# EAGLE library part PCIE-036-02-X-D-EMS2 (library pcie2usbc)
PCI EXPRESS EDGE MOUNT ASSEMBLY,36PINS.
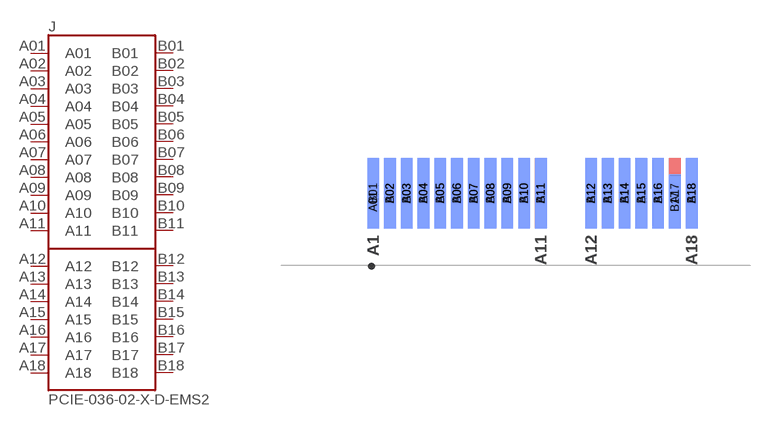
[diagram p0: symbol with the pads of SAMTEC_PCIE-036-02-X-D-EMS2; footprint SAMTEC_PCIE-036-02-X-D-EMS2]

Designator prefix J

## PCIE-036-02-X-D-EMS2 (MANUFACTURER: Samtec; MAXIMUM_PACKAGE_HEIGHT: 3.715mm; PARTREV: C; STANDARD: Manufacturer Recommendations)  [SAMTEC_PCIE-036-02-X-D-EMS2]
A01  A01  pas
A02  A02  pas
A03  A03  pas
A04  A04  pas
A05  A05  pas
A06  A06  pas
A07  A07  pas
A08  A08  pas
A09  A09  pas
A10  A10  pas
A11  A11  pas
A12  A12  pas
A13  A13  pas
A14  A14  pas
A15  A15  pas
A16  A16  pas
A17  A17  pas
A18  A18  pas
B01  B01  pas
B02  B02  pas
B03  B03  pas
B04  B04  pas
B05  B05  pas
B06  B06  pas
B07  B07  pas
B08  B08  pas
B09  B09  pas
B10  B10  pas
B11  B11  pas
B12  B12  pas
B13  B13  pas
B14  B14  pas
B15  B15  pas
B16  B16  pas
B17  B17  pas
B18  B18  pas

## Footprint SAMTEC_PCIE-036-02-X-D-EMS2 (pad centres in mm)
PCI EXPRESS EDGE MOUNT ASSEMBLY,36PINS.
smd 0.7 x 3.2: A01 -11.5,-4
smd 0.7 x 4.2: A02 -10.5,-3.5; A03 -9.5,-3.5; A04 -8.5,-3.5; A05 -7.5,-3.5; A06 -6.5,-3.5; A07 -5.5,-3.5; A08 -4.5,-3.5; A09 -3.5,-3.5; A10 -2.5,-3.5; A11 -1.5,-3.5; A12 1.5,-3.5; A13 2.5,-3.5; A14 3.5,-3.5; A15 4.5,-3.5; A16 5.5,-3.5; A17 6.5,-3.5; A18 7.5,-3.5
smd 0.7 x 4.2 bottom: B01 -11.5,-3.5; B02 -10.5,-3.5; B03 -9.5,-3.5; B04 -8.5,-3.5; B05 -7.5,-3.5; B06 -6.5,-3.5; B07 -5.5,-3.5; B08 -4.5,-3.5; B09 -3.5,-3.5; B10 -2.5,-3.5; B11 -1.5,-3.5; B12 1.5,-3.5; B13 2.5,-3.5; B14 3.5,-3.5; B15 4.5,-3.5; B16 5.5,-3.5; B18 7.5,-3.5
smd 0.7 x 3.2 bottom: B17 6.5,-4